# EAGLE library part SN74AHC138PWR (library CMWC-Product)
3-Line To 8-Line Decoder / Demultiplexer 16-TSSOP -40 to 85
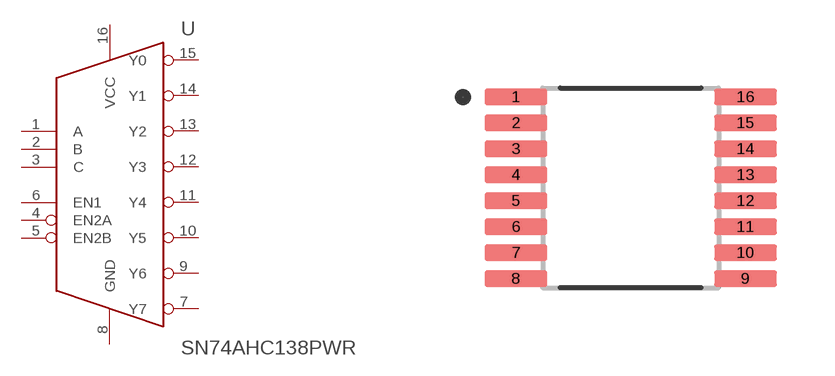
[diagram p0: symbol with the pads of SOP65P640X120-16N; footprint SOP65P640X120-16N]

Designator prefix U

## SN74AHC138PWR (AVAILABILITY: Good; DIGI-KEY_PART_NUMBER: 296-1084-1-ND; MF: Texas Instruments; MP: SN74AHC138PWR; PACKAGE: TSSOP-16 Texas Instruments; PRICE: None; PURCHASE-URL: https://pricing.snapeda.com/search/part/SN74AHC138PWR/?ref=eda)  [SOP65P640X120-16N]
1  A  in
2  B  in
3  C  in
4  EN2A  in
5  EN2B  in
6  EN1  in
7  Y7  out
8  GND  pwr
9  Y6  out
10  Y5  out
11  Y4  out
12  Y3  out
13  Y2  out
14  Y1  out
15  Y0  out
16  VCC  pwr

## Footprint SOP65P640X120-16N (pad centres in mm)
smd 1.57 x 0.41: 1 -2.87,2.275; 2 -2.87,1.625; 3 -2.87,0.975; 4 -2.87,0.325; 5 -2.87,-0.325; 6 -2.87,-0.975; 7 -2.87,-1.625; 8 -2.87,-2.275; 9 2.87,-2.275; 10 2.87,-1.625; 11 2.87,-0.975; 12 2.87,-0.325; 13 2.87,0.325; 14 2.87,0.975; 15 2.87,1.625; 16 2.87,2.275